# EAGLE library part TPS7A4901DGNR (library FMC_prototype)
?36V, ?200mA, Ultralow-Noise, Negative LINEAR REGULATOR
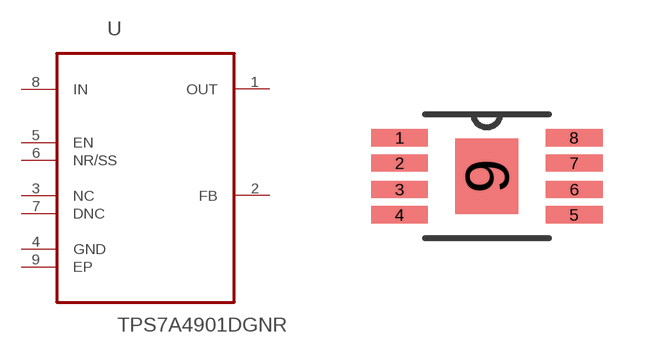
[diagram p5: symbol with the pads of SOP65P490X110-9N; footprint SOP65P490X110-9N]

Designator prefix U

## TPS7A4901DGNR (MPN: TPS7A4901DGNR; OC_FARNELL: -; OC_NEWARK: 01T0879; PACKAGE: MSOP-8; SUPPLIER: Texas Instruments)  [SOP65P490X110-9N]
1  OUT  out
2  FB  in
3  NC  nc
4  GND  pas
5  EN  in
6  NR/SS  in
7  DNC  nc
8  IN  pwr
9  EP  pas

## Footprint SOP65P490X110-9N (pad centres in mm)
smd 1.422 x 0.432: 1 -2.184,0.965; 2 -2.184,0.33; 3 -2.184,-0.33; 4 -2.184,-0.965; 5 2.184,-0.965; 6 2.184,-0.33; 7 2.184,0.33; 8 2.184,0.965
smd 1.575 x 1.88: 9 0,0